# Altium schematic symbol library ADuM1201.Schlib: 1 symbol
Pins are listed as number, name and electrical type; pins without a type are passive.

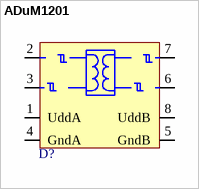
[diagram p0: symbol ADuM1201]

## ADuM1201
designator D?  (value not drawn)
Two channal isolator
footprint SO-8
pins: 1 UddA (power), 2, 3, 4 GndA (power), 5 GndB, 6 OUT, 7 EN, 8 UddB